# EAGLE library part SDM30 (library dk30a)
30W DC-DC converter - regulated single output Specifications can be viewed at http://computronics.com.au/meanwell/sdm-30/
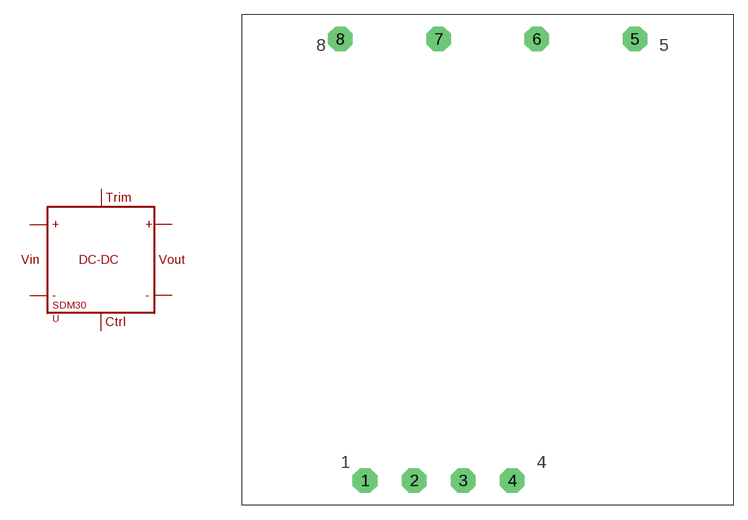
[diagram p7: symbol with the pads of DKA; footprint DKA]

Designator prefix -

## SDM30"  [DKA]
1  +VIN  pwr
2  -VIN  pwr
4  CTRL
6  +VOUT  pwr
7  -VOUT  pwr
8  TRIM

## Footprint DKA (pad centres in mm)
drill 1.27 pad 2.54 octagon: 1 -12.7,-22.86; 2 -7.62,-22.86; 3 -2.54,-22.86; 4 2.54,-22.86; 5 15.24,22.86; 6 5.08,22.86; 7 -5.08,22.86; 8 -15.24,22.86